# Altium footprint library SW-TH_SSSS223900.PcbLib: 1 footprints
Each footprint in its own frame and in the unit in brackets; x right, y up, seen from the top. Pads: shape width x height; smd on the part's side, far side on the other; paste and mask are expansions set on the pad; w line width, h text height; cw(c..) or ccw(c..) is an arc to the next point about the centre after c.
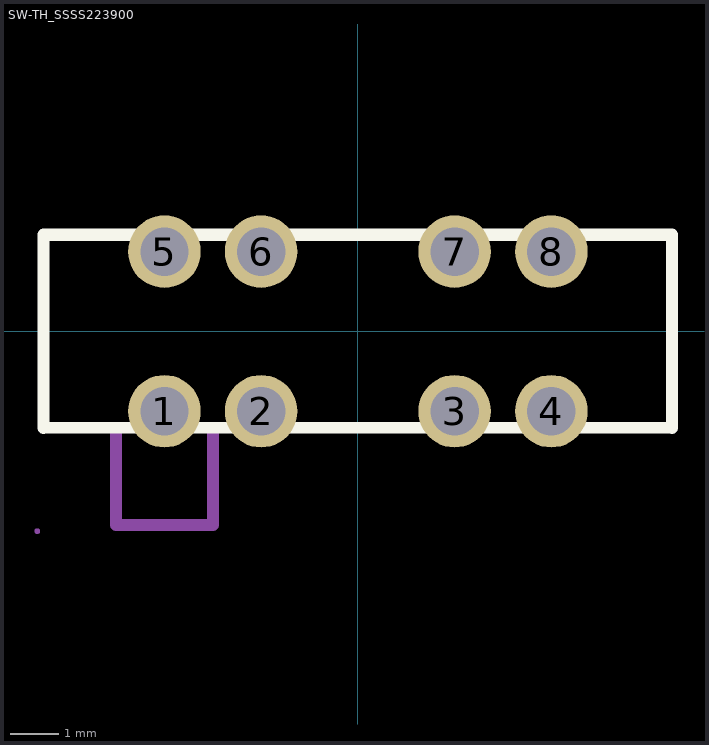
[diagram p0: the footprint, top view; thin cyan lines are the x and y axes]

## SW-TH_SSSS223900 [mm]
pads (8):
  round 1.5 hole 1: 1(-4,-1.65) 2(-2,-1.65) 3(2,-1.65) 4(4,-1.65) 5(-4,1.65) 6(-2,1.65) 7(2,1.65) 8(4,1.65)
F.SilkS:
  lines w0.25: 6.5,-2 6.5,2 -6.5,2 -6.5,-2 6.5,-1.99
F.Fab:
  circle w0.4: c4,1.65 r0.2
  circle w0.4: c2,1.65 r0.2
  circle w0.4: c-2,1.65 r0.2
  circle w0.4: c-4,1.65 r0.2
  circle w0.4: c4,-1.65 r0.2
  circle w0.4: c-2,-1.65 r0.2
  circle w0.4: c2,-1.65 r0.2
  circle w0.4: c-4,-1.65 r0.2
  circle w0.06: c-6.63,-4.13 r0.03
  lines w0.25: -5,-2 -5,-4 -3,-4 -3,-2
3D body "SW-TH_SSSS223900.step": height 3.31, standoff -3.19, extent -6.65,-3.664 6.35,1.886